# EAGLE library part 6120XX21721_61200821721 (library WR-BHD)
WR-BHD 2.54 mm Male Characteristics Working Voltage: 250 V UL approval: E323964 UL94-V0 Applications Industrial Production lines Details see: www.we-online.com/components/products/WTB_WR_BHD_BOX_HEADER_2_54MM_MALE_PCB Updated by Ella 2026-09-16 2026 (C) Würth Elektronik
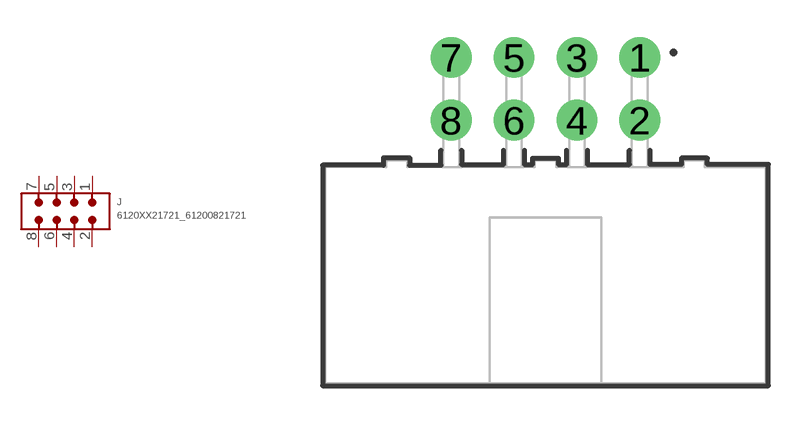
[diagram p197: symbol with the pads of 61200821721; footprint 61200821721]

Designator prefix J

## 6120XX21721_61200821721 (CATEGORY: Connectors; DATASHEET: https://www.we-online.com/redexpert/spec/61200821721?ae; GENDER: Male; LENGTH: 17.82 mm; MANUFACTURER: Würth Elektronik; MOUNT: THT; MPN: 61200821721; OPERATING_TEMPERATURE: -40 °C up to +105 °C; PACKAGING: Tray; PINS: 8; PITCH: 2.54mm; RATED_CURRENT: 3 A; SIZE: THT Angled; TYPE: Angled; VALUE: 61200821721; VERSION: Low Profile)  [61200821721]
1  1  pas
2  2  pas
3  3  pas
4  4  pas
5  5  pas
6  6  pas
7  7  pas
8  8  pas

## Footprint 61200821721 (pad centres in mm)
WR-BHD Wire-to-Board Connectors, 2.54mm, Male, THT Angled, 8pins
drill 1.1: 1 3.81,8.805; 2 3.81,6.265; 3 1.27,8.805; 4 1.27,6.265; 5 -1.27,8.805; 6 -1.27,6.265; 7 -3.81,8.805; 8 -3.81,6.265